# Altium schematic symbol library ESR10EZPF1002.SchLib: 1 symbol
Pins are listed as number, name and electrical type; pins without a type are passive.

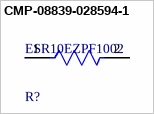
[diagram p0: symbol CMP-08839-028594-1]

## CMP-08839-028594-1
designator R?, comment ESR10EZPF1002
10kΩ ±1% 0.4W 0805 Anti-Surge Chip Resistor AEC-Q200; Max Power Dissipation: 400mW; Resistance: 10kR; Temperature Coefficient: 100ppm/°C; Case/Package: 0805; Max Operating Temperature: 155°C; Package Quantity: 1; Series: ESR; Number of Terminations: 2; Tolerance: 1%; Packaging: Tape and Reel; RoHS Compliant: Yes; Width: 0.049inch; Case Code (Metric): 2012; Height: 0.026inch; Length: 0.079inch; Min Operating Temperature: -55°C; Resistor Type: Thick Film; Features: Automotive AEC-Q200; Case Code (Imperial): 0805
footprint FP-ESR10-IPC_C
footprint FP-ESR10-IPC_B
footprint FP-ESR10-IPC_A
footprint FP-ESR10-MFG
pins: 1, 2